# Altium footprint library TDK_SPM6530.PcbLib: 1 footprints
Each footprint in its own frame and in the unit in brackets; x right, y up, seen from the top. Pads: shape width x height; smd on the part's side, far side on the other; paste and mask are expansions set on the pad; w line width, h text height; cw(c..) or ccw(c..) is an arc to the next point about the centre after c.
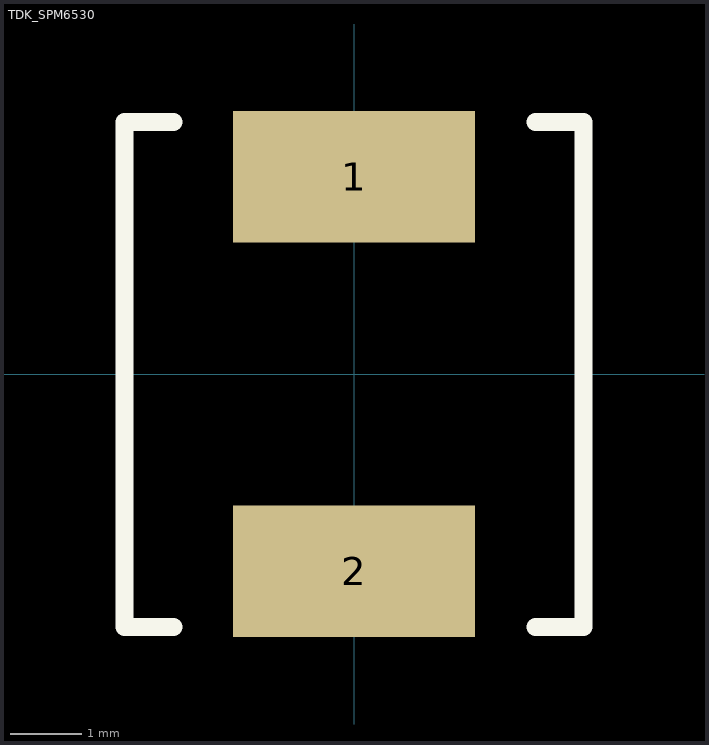
[diagram p0: the footprint, top view; thin cyan lines are the x and y axes]

## TDK_SPM6530 [mm] "TDK SPM6530 type footprint"
pads (2):
  rect 3.4x1.85 smd: 1(0,2.775) 2(0,-2.775)
Top Overlay:
  lines w0.254: -2.54,-3.556 -3.226,-3.556 -3.226,3.544 -2.54,3.544 ; 2.552,-3.556 3.226,-3.556 3.226,3.544 ; 2.552,3.544 3.175,3.544